# EAGLE library part LTC6994CS6-1PBF (library U-Linear-LTC6994CS6-1-programable-delay)
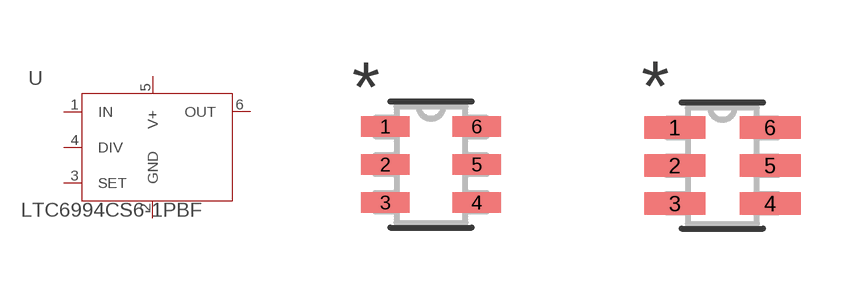
[diagram p0: symbol with the pads of TSOT-23_S6; footprints TSOT-23_S6, TSOT-23_S6-M]

Designator prefix U

## LTC6994CS6-1PBF (MFR: Linear Technology; MPN: LTC6994-1; VALUE: LTC6994-1)  [TSOT-23_S6]
1  IN  in
2  GND  pwr
3  SET  in
4  DIV  in
5  V+  pwr
6  OUT  out

## LTC6994CS6-1PBFTSOT-23_S6-M (MANUFACTURER_PART_NUMBER: LTC6994CS61#PBF; VENDOR: Linear Technology)  [TSOT-23_S6-M]
Pads as for TSOT-23_S6

## LTC6994CS6-1PBFTSOT-23_S6-L (MANUFACTURER_PART_NUMBER: LTC6994CS61#PBF; VENDOR: Linear Technology)  [TSOT-23_S6-L]
Pads as for TSOT-23_S6

## Footprint TSOT-23_S6 (pad centres in mm)
smd 1.219 x 0.508: 1 -1.143,0.95; 2 -1.143,0; 3 -1.143,-0.95; 4 1.143,-0.95; 5 1.143,0; 6 1.143,0.95

## Footprint TSOT-23_S6-M (pad centres in mm)
smd 1.524 x 0.559: 1 -1.194,0.95; 2 -1.194,0; 3 -1.194,-0.95; 4 1.194,-0.95; 5 1.194,0; 6 1.194,0.95

## Footprint TSOT-23_S6-L (pad centres in mm)
smd 0.914 x 0.457: 1 -1.092,0.95; 2 -1.092,0; 3 -1.092,-0.95; 4 1.092,-0.95; 5 1.092,0; 6 1.092,0.95